# EAGLE library part M18 (library pimoroni)
1x18 .1" header
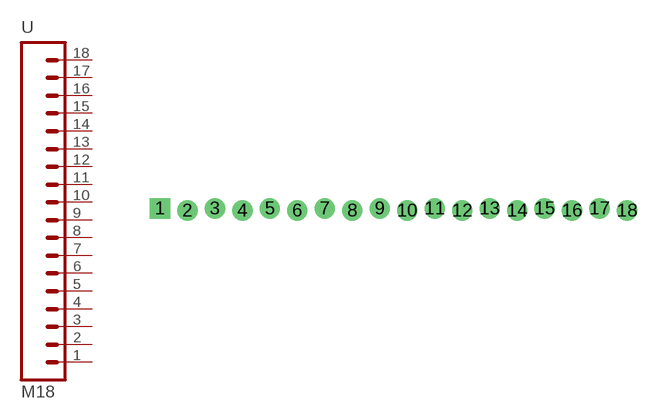
[diagram p52: symbol with the pads of 1X18; footprint 1X18]

Designator prefix -

## M18_  [1X18]
1  1  pas
2  2  pas
3  3  pas
4  4  pas
5  5  pas
6  6  pas
7  7  pas
8  8  pas
9  9  pas
10  10  pas
11  11  pas
12  12  pas
13  13  pas
14  14  pas
15  15  pas
16  16  pas
17  17  pas
18  18  pas

## Footprint 1X18 (pad centres in mm)
drill 1.016 pad 1.88 square: 1 0,0
drill 1.016 pad 1.88: 2 2.54,-0.2; 3 5.08,0; 4 7.62,-0.2; 5 10.16,0; 6 12.7,-0.2; 7 15.24,0; 8 17.78,-0.2; 9 20.32,0; 10 22.86,-0.2; 11 25.4,0; 12 27.94,-0.2; 13 30.48,0; 14 33.02,-0.2; 15 35.56,0; 16 38.1,-0.2; 17 40.64,0; 18 43.18,-0.2